# EAGLE library part MAX9915EXT (library MAX9915EXT)
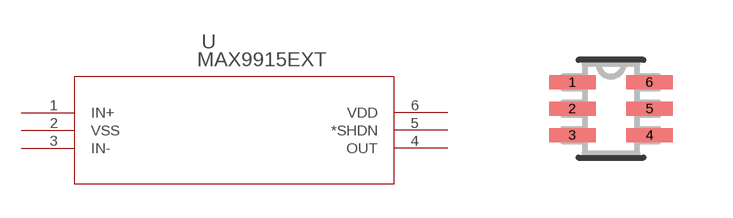
[diagram p0: symbol with the pads of 21-0077G; footprint 21-0077G]

Designator prefix U

## MAX9915EXT (Availability: Unavailable; Description: MAX9915 Series 5.5 V 1 MHz Rail to Rail Operational Amplifier - SOT-363; MF: Maxim Integrated; MP: MAX9915EXT+T; Package: SC-70 Maxim Integrated; Price: None)  [21-0077G]
1  IN+  in
2  VSS  pwr
3  IN-  in
4  OUT  out
5  *SHDN  pas
6  VDD  pwr

## Footprint 21-0077G (pad centres in mm)
smd 1.168 x 0.356: 1 -0.965,0.66; 2 -0.965,0; 3 -0.965,-0.66; 4 0.965,-0.66; 5 0.965,0; 6 0.965,0.66